# EAGLE library part CXA1622M/P (library Audio-Power-amplifier)
SONY Stereo Power Amplifier/Monaural BTL Power Amplifier
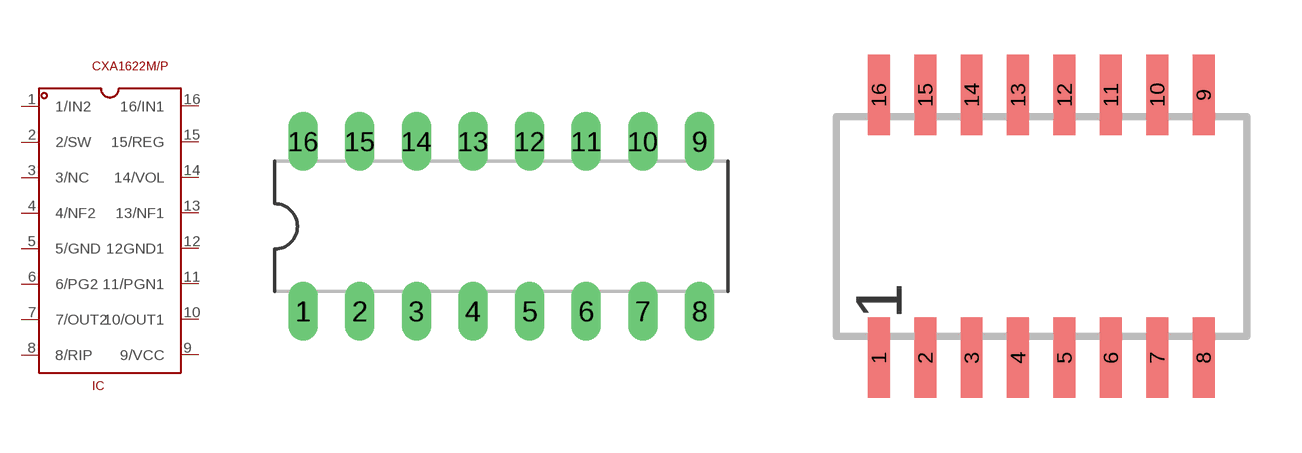
[diagram p48: symbol with the pads of DIL16; footprints DIL16, SOP16]

Designator prefix IC

## CXA1622M/P (DIP16: IC)  [DIL16]
1  1/IN2  in
2  2/SW
3  3/NC  nc
4  4/NF2
5  5/GND  pwr
6  6/PG2  pwr
7  7/OUT2  out
8  8/RIP
9  9/VCC  pwr
10  10/OUT1  out
11  11/PGN1  pwr
12  12GND1  pwr
13  13/NF1
14  14/VOL
15  15/REG
16  16/IN1  in

## CXA1622M/PSOP16  [SOP16]
Pads as for DIL16

## Footprint DIL16 (pad centres in mm)
Dual In Line Package
drill 0.813 long: 1 -8.89,-3.81; 2 -6.35,-3.81; 3 -3.81,-3.81; 4 -1.27,-3.81; 5 1.27,-3.81; 6 3.81,-3.81; 7 6.35,-3.81; 8 8.89,-3.81; 9 8.89,3.81; 10 6.35,3.81; 11 3.81,3.81; 12 1.27,3.81; 13 -1.27,3.81; 14 -3.81,3.81; 15 -6.35,3.81; 16 -8.89,3.81

## Footprint SOP16 (pad centres in mm)
smd 0.6 x 2.2: 1 -4.445,-3.6; 2 -3.175,-3.6; 3 -1.905,-3.6; 4 -0.635,-3.6; 5 0.635,-3.6; 6 1.905,-3.6; 7 3.175,-3.6; 8 4.445,-3.6; 9 4.445,3.6; 10 3.175,3.6; 11 1.905,3.6; 12 0.635,3.6; 13 -0.635,3.6; 14 -1.905,3.6; 15 -3.175,3.6; 16 -4.445,3.6